# EAGLE library part PTM330 (library EnOcean)
PTM 330 The radio transmitter module PTM 33x from EnOcean enables the implementation of wireless sensors and switches without batteries. Key applications are handheld remote controls or industrial switches.
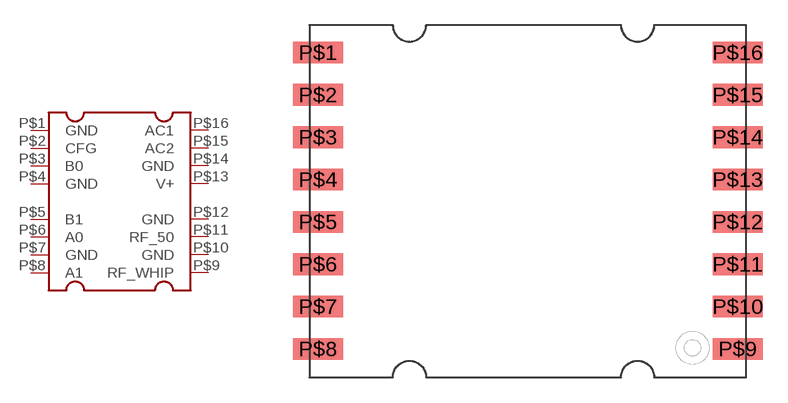
[diagram p0: symbol with the pads of PTM33X; footprint PTM33X]

Designator prefix -

## PTM330  [PTM33X]
P$1  GND  pwr
P$2  CFG
P$3  B0  in
P$4  GND  pwr
P$5  B1  in
P$6  A0  in
P$7  GND  pwr
P$8  A1  in
P$9  RF_WHIP  out
P$10  GND  pwr
P$11  RF_50  out
P$12  GND  pwr
P$13  V+  nc
P$14  GND  pwr
P$15  AC2  sup
P$16  AC1  sup

## Footprint PTM33X (pad centres in mm)
smd 3 x 1.3: P$1 -12.6,8.925; P$2 -12.6,6.385; P$3 -12.6,3.845; P$4 -12.6,1.305; P$5 -12.6,-1.235; P$6 -12.6,-3.775; P$7 -12.6,-6.315; P$8 -12.6,-8.855; P$9 12.6,-8.855; P$10 12.6,-6.315; P$11 12.6,-3.775; P$12 12.6,-1.235; P$13 12.6,1.305; P$14 12.6,3.845; P$15 12.6,6.385; P$16 12.6,8.925